# Altium footprint library PESD5V0S2UAT.PcbLib: 3 footprints
Each footprint in its own frame and in the unit in brackets; x right, y up, seen from the top. Pads: shape width x height; smd on the part's side, far side on the other; paste and mask are expansions set on the pad; w line width, h text height; cw(c..) or ccw(c..) is an arc to the next point about the centre after c.
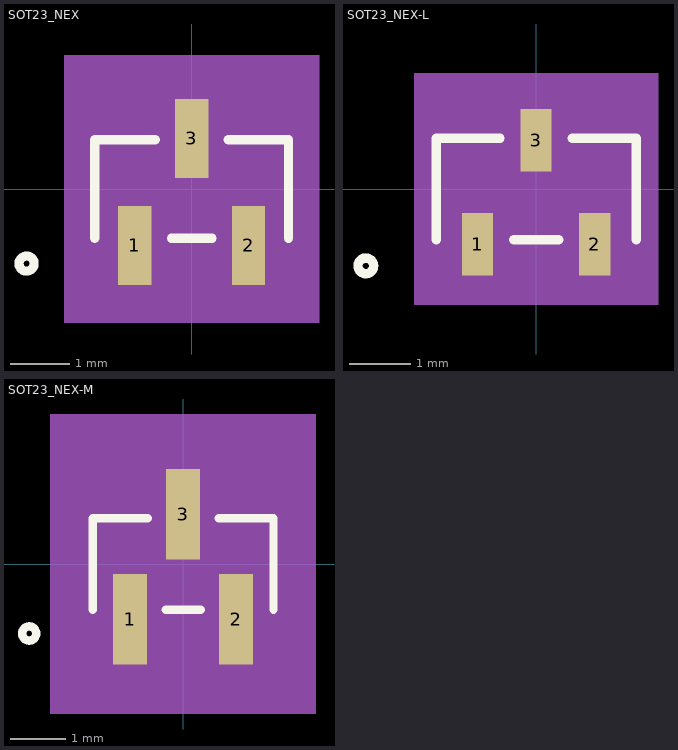
[diagram p0: the footprints below, top view; thin cyan lines are the x and y axes]

## SOT23_NEX [mil]
pads (3):
  rect 22x52 smd paste+3.86 mask+4: 1(-37.5,-37.21) 2(37.5,-37.21) 3(0,33.36)
Top Overlay:
  circle w6: c-109,-49.21 r5
  lines w6: -64,-32.5 -64,32.5 -24.1,32.5 ; -13.4,-32.5 13.4,-32.5 ; 24.1,32.5 64,32.5 64,-32.5
Mechanical 5:
  region: -84,88.21 84,88.21 84,-88.21 -84,-88.21
Mechanical 13:
  circle w0: c-49,-17.5 r5
  lines w1: -59,-27.5 59,-27.5 59,27.5 -59,27.5 -59,-27.5 ; -47.5,-49.21 -47.5,-27.5 -27.5,-27.5 -27.5,-49.21 -47.5,-49.21 ; -10,27.5 10,27.5 10,49.21 -10,49.21 -10,27.5 ; 27.5,-49.21 27.5,-27.5 47.5,-27.5 47.5,-49.21 27.5,-49.21
Mechanical 15:
  region: -69,-37.5 -69,37.5 -21,37.5 -21,73.21 21,73.21 21,37.5 69,37.5 69,-37.5 58.5,-37.5 58.5,-73.21 -58.5,-73.21 -58.5,-37.5
  region: 59,-27.5 -59,-27.5 -59,27.5 59,27.5
  lines w6: -69,-37.5 -69,37.5 -21,37.5 -21,73.21 21,73.21 21,37.5 69,37.5 69,-37.5 58.5,-37.5 58.5,-73.21 -58.5,-73.21 -58.5,-37.5 -69,-37.5
3D body "SOT23_NEX.step": height 43.11, standoff 0, extent -59.02,-49.21 59.02,49.21

## SOT23_NEX-L [mil]
pads (3):
  rect 20x40 smd paste+3.86 mask+4: 1(-37.5,-35.21) 2(37.5,-35.21) 3(0,31.36)
Top Overlay:
  circle w6: c-109,-49.21 r5
  lines w6: -64,-32.5 -64,32.5 -23.1,32.5 ; -14.4,-32.5 14.4,-32.5 ; 23.1,32.5 64,32.5 64,-32.5
Mechanical 5:
  region: -78,74.21 78,74.21 78,-74.21 -78,-74.21
Mechanical 13:
  circle w0: c-49,-17.5 r5
  lines w1: -59,-27.5 59,-27.5 59,27.5 -59,27.5 -59,-27.5 ; -47.5,-49.21 -47.5,-27.5 -27.5,-27.5 -27.5,-49.21 -47.5,-49.21 ; -10,27.5 10,27.5 10,49.21 -10,49.21 -10,27.5 ; 27.5,-49.21 27.5,-27.5 47.5,-27.5 47.5,-49.21 27.5,-49.21
Mechanical 15:
  region: -63,-31.5 -63,31.5 -14,31.5 -14,59.21 14,59.21 14,31.5 63,31.5 63,-31.5 51.5,-31.5 51.5,-59.21 -51.5,-59.21 -51.5,-31.5
  region: 59,-27.5 -59,-27.5 -59,27.5 59,27.5
  lines w6: -63,-31.5 -63,31.5 -14,31.5 -14,59.21 14,59.21 14,31.5 63,31.5 63,-31.5 51.5,-31.5 51.5,-59.21 -51.5,-59.21 -51.5,-31.5 -63,-31.5
3D body "SOT23_NEX.step": height 43.11, standoff 0, extent -59.02,-49.21 59.02,49.21

## SOT23_NEX-M [mil]
pads (3):
  rect 24x64 smd paste+3.86 mask+4: 1(-37.5,-39.21) 2(37.5,-39.21) 3(0,35.36)
Top Overlay:
  circle w6: c-109,-49.21 r5
  lines w6: -64,-32.5 -64,32.5 -25.1,32.5 ; -12.4,-32.5 12.4,-32.5 ; 25.1,32.5 64,32.5 64,-32.5
Mechanical 5:
  region: -94,106.21 94,106.21 94,-106.21 -94,-106.21
Mechanical 13:
  circle w0: c-49,-17.5 r5
  lines w1: -59,-27.5 59,-27.5 59,27.5 -59,27.5 -59,-27.5 ; -47.5,-49.21 -47.5,-27.5 -27.5,-27.5 -27.5,-49.21 -47.5,-49.21 ; -10,27.5 10,27.5 10,49.21 -10,49.21 -10,27.5 ; 27.5,-49.21 27.5,-27.5 47.5,-27.5 47.5,-49.21 27.5,-49.21
Mechanical 15:
  region: -79,-47.5 -79,47.5 -32,47.5 -32,91.21 32,91.21 32,47.5 79,47.5 79,-47.5 69.5,-47.5 69.5,-91.21 -69.5,-91.21 -69.5,-47.5
  region: 59,-27.5 -59,-27.5 -59,27.5 59,27.5
  lines w6: -79,-47.5 -79,47.5 -32,47.5 -32,91.21 32,91.21 32,47.5 79,47.5 79,-47.5 69.5,-47.5 69.5,-91.21 -69.5,-91.21 -69.5,-47.5 -79,-47.5
3D body "SOT23_NEX.step": height 43.11, standoff 0, extent -59.02,-49.21 59.02,49.21